# Altium integrated library CapElectrolite.IntLib: 4 symbols
Pins are listed as number, name and electrical type; pins without a type are passive.

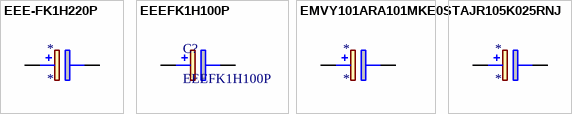
[diagram p0: symbols EEE-FK1H220P to TAJR105K025RNJ]

## EEE-FK1H220P
designator *
footprint EEE-FK1H220P
pins: 1 +, 2 -

## EEEFK1H100P
designator C?
footprint EEE-FK1H100P
pins: 1 +, 2 -

## EMVY101ARA101MKE0S
designator *
footprint EMVY101ARA101MKE0S
pins: 1 +, 2 -

## TAJR105K025RNJ
designator *
footprint TAJR105K025RNJ
pins: 1 +, 2 -